# Altium footprint library opto-transmittter-hp.PCBLIB: 6 footprints
Each footprint in its own frame and in the unit in brackets; x right, y up, seen from the top. Pads: shape width x height; smd on the part's side, far side on the other; paste and mask are expansions set on the pad; w line width, h text height; cw(c..) or ccw(c..) is an arc to the next point about the centre after c.
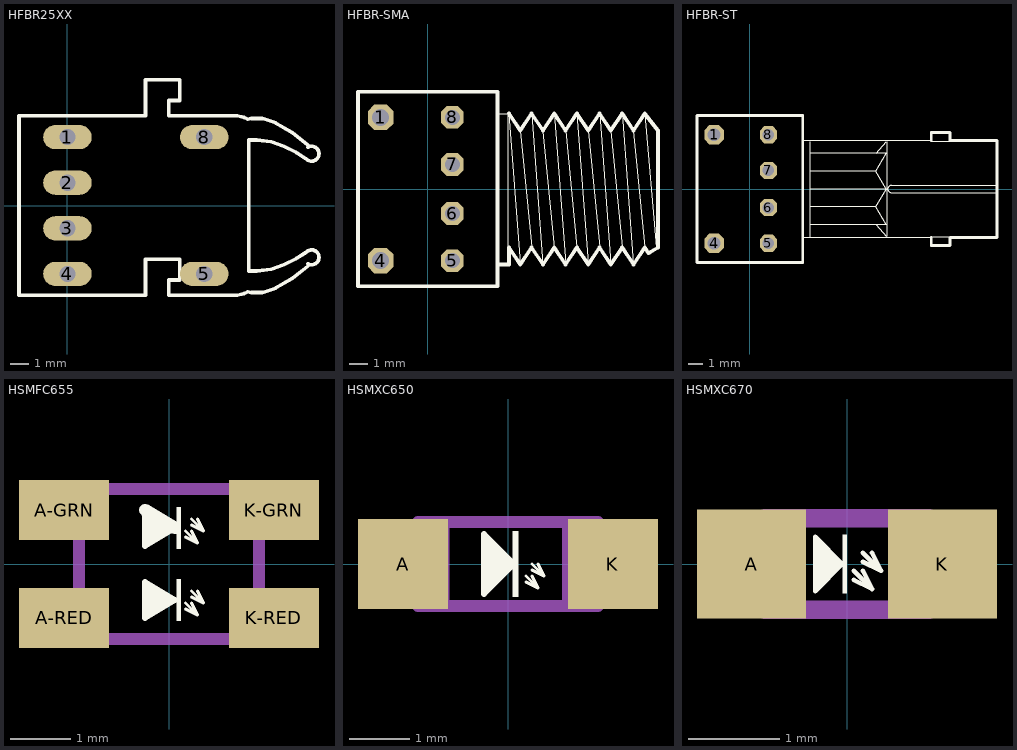
[diagram p0: the footprints below, top view; thin cyan lines are the x and y axes]

## HFBR25XX [mm]
pads (6):
  oval 2.7x1.35 hole 0.9: 1(0,3.81) 2(0,1.27) 3(0,-1.27) 4(0,-3.81) 5(7.62,-3.81) 8(7.62,3.81)
Top Overlay:
  lines w0.203: 9.4,-5 5.65,-5 5.65,-4.15 6.25,-4.15 6.25,-3 4.35,-3 4.35,-5 -2.7,-5 -2.7,5 4.35,5 4.35,7 6.25,7 6.25,5.85 5.65,5.85 5.65,5 9.4,5 ; 9.45,-5 9.7,-4.95 9.85,-4.9 10.05,-4.8 10.25,-4.85 10.85,-4.85 11.6,-4.6 12.55,-4.05 13.5,-3.3 ; 9.45,5 9.7,4.95 9.85,4.9 10.05,4.8 10.25,4.85 10.85,4.85 11.6,4.6 12.55,4.05 13.5,3.3 ; 13.4,-3.25 ccw(c13.6,-2.886) 13.3,-2.6 12.75,-2.95 12.05,-3.3 11.35,-3.55 10.55,-3.65 10.1,-3.65 10.1,3.65 10.55,3.65 11.35,3.55 12.05,3.3 12.75,2.95 13.3,2.6 ccw(c13.6,2.886) 13.4,3.25

## HFBR-SMA [mil]
pads (6):
  oct 53.15x53.15 hole 35.43: 1(-98.43,149.61) 4(-98.43,-149.61)
  oct 47.25x47.25 hole 31.5: 5(51.18,-149.61) 6(51.18,-51.18) 7(51.18,51.18) 8(51.18,149.61)
Top Overlay:
  lines w2: 149.61,157.48 169.29,157.48 192.91,-155.51 ; 167.32,-122.05 167.32,155.51 ; 192.91,122.05 216.54,-122.05 ; 216.54,155.51 240.16,-157.48 ; 240.16,120.08 263.78,-124.02 ; 263.78,157.48 287.4,-155.51 ; 287.4,122.05 311.02,-122.05 ; 311.02,157.48 334.65,-155.51 ; 334.65,122.05 358.27,-122.05 ; 358.27,157.48 381.89,-155.51 ; 381.89,122.05 405.51,-122.05 ; 405.51,157.48 429.13,-155.51 ; 429.13,122.05 452.76,-122.05 ; 452.76,155.51 476.38,-122.05
  lines w8: 149.61,-157.48 169.29,-157.48 169.29,-122.05 192.91,-157.48 216.54,-122.05 240.16,-157.48 263.78,-122.05 287.4,-157.48 311.02,-122.05 334.65,-157.48 358.27,-122.05 381.89,-157.48 405.51,-122.05 429.13,-157.48 452.76,-122.05 460.63,-133.86 480.32,-122.05 480.32,122.05 452.76,157.48 429.13,122.05 405.51,157.48 381.89,122.05 358.27,157.48 334.65,122.05 311.02,157.48 287.4,122.05 263.78,157.48 240.16,122.05 216.54,157.48 192.91,122.05 169.29,157.48 ; -145.67,-202.76 145.67,-202.76 145.67,202.76 -145.67,202.76 -145.67,-202.76

## HFBR-ST [mil]
pads (6):
  oct 53.15x53.15 hole 35.43: 1(-98.43,149.61) 4(-98.43,-149.61)
  oct 47.25x47.25 hole 31.5: 5(51.18,-149.61) 6(51.18,-51.18) 7(51.18,51.18) 8(51.18,149.61)
Top Overlay:
  lines w2: 149.61,-133.86 500,-133.86 ; 149.61,133.86 500,133.86 ; 165.35,-131.89 165.35,129.92 ; 165.35,-98.43 348.43,-98.43 ; 165.35,0 375.98,0 ; 165.35,98.43 348.43,98.43 ; 167.32,-49.21 346.46,-49.21 ; 167.32,49.21 346.46,49.21 ; 375.98,-129.92 348.43,-98.43 ; 375.98,129.92 348.43,98.43 ; 377.95,-129.92 377.95,129.92 ; 500,-131.89 551.18,-131.89 ; 501.97,131.89 549.21,131.89 ; 677.17,-9.84 389.76,-9.84 cw(c389.76,0) 389.76,9.84 677.17,9.84 ; 346.46,-49.21 375.98,-98.43 348.43,-98.43 ; 346.46,-49.21 375.98,0 ; 346.46,49.21 375.98,0 ; 346.46,49.21 375.98,98.43 348.43,98.43
  lines w8: 500,-133.86 500,-155.51 551.18,-155.51 551.18,-133.86 681.1,-133.86 681.1,133.86 551.18,133.86 551.18,155.51 500,155.51 500,133.86 ; -145.67,-202.76 145.67,-202.76 145.67,202.76 -145.67,202.76 -145.67,-202.76

## HSMFC655 [mm]
pads (4):
  rect 1.5x1 smd: A-GRN(-1.75,0.9) A-RED(-1.75,-0.9) K-GRN(1.75,0.9) K-RED(1.75,-0.9)
Top Overlay:
  rectangle: 0.125,0.25 0.2,0.95
  rectangle: 0.125,-0.95 0.2,-0.25
  lines w0.051: 0.275,-0.75 0.475,-0.85 ; 0.275,-0.65 0.475,-0.85 ; 0.275,0.45 0.475,0.35 ; 0.275,0.55 0.475,0.35 ; 0.375,-0.65 0.475,-0.85 ; 0.375,-0.55 0.575,-0.65 ; 0.375,-0.45 0.575,-0.65 ; 0.375,0.55 0.475,0.35 ; 0.375,0.65 0.575,0.55 ; 0.375,0.75 0.575,0.55 ; 0.475,-0.45 0.575,-0.65 ; 0.475,0.75 0.575,0.55
  lines w0.102: -0.4,0.9 -0.4,0.3 0.1,0.6 ; -0.4,-0.9 -0.4,-0.3 0.1,-0.6 -0.4,-0.9
  lines w0.203: -0.4,0.9 0.1,0.6 ; -0.3,-0.75 -0.3,-0.45 -0.075,-0.6 -0.3,-0.75 ; -0.3,0.45 -0.3,0.75 -0.075,0.6 -0.3,0.45
Mechanical 16:
  lines w0.203: -1.5,-1.25 1.5,-1.25 1.5,-1 cw(c1.5,-0.75) 1.5,-0.5 1.5,0.5 cw(c1.5,0.75) 1.5,1 1.5,1.25 -1.5,1.25 -1.5,1 cw(c-1.5,0.75) -1.5,0.5 -1.5,-0.5 cw(c-1.5,-0.75) -1.5,-1 -1.5,-1.25

## HSMXC650 [mm]
pads (2):
  rect 1.5x1.5 smd: A(-1.75,0) K(1.75,0)
Top Overlay:
  rectangle: 0.075,-0.55 0.175,0.55
  lines w0.051: 0.3,-0.3 0.5,-0.4 ; 0.3,-0.2 0.5,-0.4 ; 0.4,-0.2 0.5,-0.4 ; 0.4,-0.1 0.6,-0.2 ; 0.4,0 0.6,-0.2 ; 0.5,0 0.6,-0.2
  lines w0.102: -0.4,-0.5 -0.4,0.5 0.1,0 -0.4,-0.5
  lines w0.203: -0.3,0.3 -0.3,-0.3 -0.025,-0.025 -0.2,0.15 -0.2,-0.025
Mechanical 16:
  rectangle: 0.9,-0.7 1.3,0.7
  lines w0.051: -1,-0.7 -1,0.7
  lines w0.203: -1.5,-0.7 -1,-0.7 1.5,-0.7 1.5,0.7 -1,0.7 -1.5,0.7 -1.5,-0.7

## HSMXC670 [mm]
pads (2):
  rect 1.2x1.2 smd: A(-1.05,0) K(1.05,0)
Top Overlay:
  rectangle: -0.05,-0.325 0,0.325
  lines w0.051: 0.075,-0.175 0.275,-0.275 ; 0.075,-0.075 0.275,-0.275 ; 0.175,-0.075 0.275,-0.275 ; 0.175,0.025 0.375,-0.075 ; 0.175,0.125 0.375,-0.075 ; 0.275,0.125 0.375,-0.075 ; -0.35,-0.3 -0.35,0.3 -0.05,0 -0.35,-0.3
  lines w0.102: -0.3,0.2 -0.3,-0.2 -0.1,0 -0.25,0.15 -0.25,-0.05 -0.2,0
Mechanical 16:
  lines w0.203: -0.9,-0.502 -0.9,0.502 0.9,0.502 0.9,-0.502 -0.9,-0.502